# Altium footprint library Octopart-CPL.PcbLib: 29 footprints (part 2 of 2)
Each footprint in its own frame and in the unit in brackets; x right, y up, seen from the top. Pads: shape width x height; smd on the part's side, far side on the other; paste and mask are expansions set on the pad; w line width, h text height; cw(c..) or ccw(c..) is an arc to the next point about the centre after c.
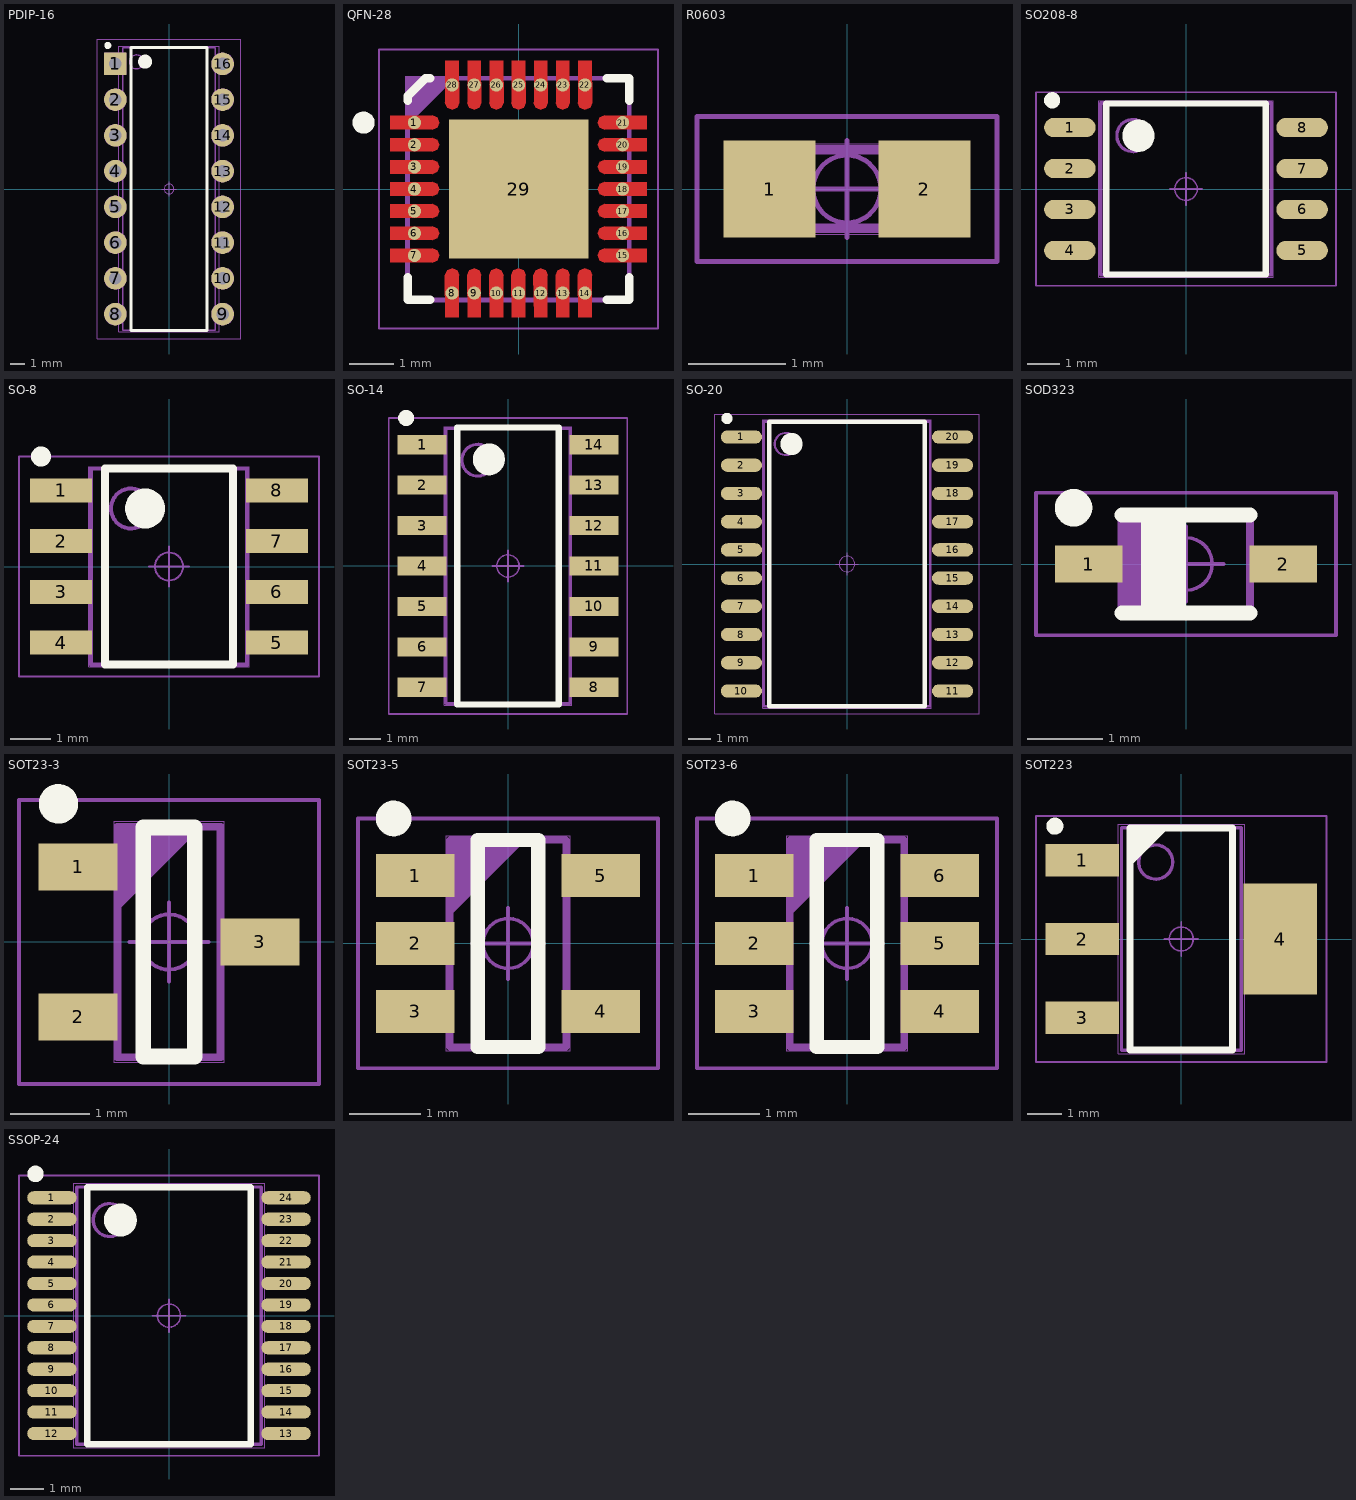
[diagram p1: the footprints below, top view; thin cyan lines are the x and y axes]

## PDIP-16 [mm]
pads (16):
  rect 1.6x1.6 / inner round 1.6 / far side rect 1.6x1.6 hole 0.9: 1(-3.81,8.89)
  round 1.6 hole 0.9: 2(-3.81,6.35) 3(-3.81,3.81) 4(-3.81,1.27) 5(-3.81,-1.27) 6(-3.81,-3.81) 7(-3.81,-6.35) 8(-3.81,-8.89) 9(3.81,-8.89) 10(3.81,-6.35) 11(3.81,-3.81) 12(3.81,-1.27) 13(3.81,1.27) 14(3.81,3.81) 15(3.81,6.35) 16(3.81,8.89)
Top Overlay:
  circle w0.25: c-4.35,10.2 r0.125
  circle w0.5: c-1.7,9.05 r0.25
  lines w0.2: -2.7,-10.05 -2.7,10.05 2.7,10.05 2.7,-10.05 -2.7,-10.05
Mechanical 15:
  circle w0.1: c3.81,8.89 r0.75
  circle w0.1: c3.81,6.35 r0.75
  circle w0.1: c3.81,3.81 r0.75
  circle w0.1: c3.81,1.27 r0.75
  circle w0.1: c3.81,-1.27 r0.75
  circle w0.1: c3.81,-3.81 r0.75
  circle w0.1: c3.81,-6.35 r0.75
  circle w0.1: c3.81,-8.89 r0.75
  circle w0.1: c-3.81,-8.89 r0.75
  circle w0.1: c-3.81,-6.35 r0.75
  circle w0.1: c-3.81,-3.81 r0.75
  circle w0.1: c-3.81,-1.27 r0.75
  circle w0.1: c-3.81,1.27 r0.75
  circle w0.1: c-3.81,3.81 r0.75
  circle w0.1: c-3.81,6.35 r0.75
  circle w0.1: c-2.302,9.033 r0.5
  lines w0.1: -4.56,8.14 -3.06,8.14 -3.06,9.64 -4.56,9.64 -4.56,8.14 ; -3.302,-10.033 -3.302,10.033 3.302,10.033 3.302,-10.033 -3.302,-10.033
Mechanical 20:
  circle w0.05: c0,0 r0.35
  lines w0.05: -0.5,0 0.5,0 ; 0,-0.5 0,0.5 ; -5.11,-10.66 -5.11,10.66 5.11,10.66 5.11,-10.66 -5.11,-10.66
Mechanical 21:
  lines w0.001: -3.556,-10.16 -3.556,10.16 3.556,10.16 3.556,-10.16 -3.556,-10.16

## QFN-28 [mm]
pads (29):
  round 0.3 smd: 1(-2.35,1.5) 2(-2.35,1) 3(-2.35,0.5) 4(-2.35,0) 5(-2.35,-0.5) 6(-2.35,-1) 7(-2.35,-1.5) 8(-1.5,-2.35) 9(-1,-2.35) 10(-0.5,-2.35) 11(0,-2.35) 12(0.5,-2.35) 13(1,-2.35) 14(1.5,-2.35) 15(2.35,-1.5) 16(2.35,-1) 17(2.35,-0.5) 18(2.35,0) 19(2.35,0.5) 20(2.35,1) 21(2.35,1.5) 22(1.5,2.35) 23(1,2.35) 24(0.5,2.35) 25(0,2.35) 26(-0.5,2.35) 27(-1,2.35) 28(-1.5,2.35)
  rect 3.15x3.15 smd paste-0.58: 29(0,0)
Top Layer:
  region: -2.9,1.65 -1.95,1.662 -1.835,1.615 -1.788,1.5 -1.835,1.385 -1.95,1.338 -1.95,1.35 -2.9,1.35
  region: -2.9,1.15 -1.95,1.162 -1.835,1.115 -1.788,1 -1.835,0.885 -1.95,0.838 -1.95,0.85 -2.9,0.85
  region: -2.9,0.65 -1.95,0.662 -1.835,0.615 -1.788,0.5 -1.835,0.385 -1.95,0.338 -1.95,0.35 -2.9,0.35
  region: -2.9,0.15 -1.95,0.162 -1.835,0.115 -1.788,0 -1.835,-0.115 -1.95,-0.162 -1.95,-0.15 -2.9,-0.15
  region: -2.9,-0.35 -1.95,-0.338 -1.835,-0.385 -1.788,-0.5 -1.835,-0.615 -1.95,-0.662 -1.95,-0.65 -2.9,-0.65
  region: -2.9,-0.85 -1.95,-0.838 -1.835,-0.885 -1.788,-1 -1.835,-1.115 -1.95,-1.162 -1.95,-1.15 -2.9,-1.15
  region: -2.9,-1.35 -1.95,-1.338 -1.835,-1.385 -1.788,-1.5 -1.835,-1.615 -1.95,-1.662 -1.95,-1.65 -2.9,-1.65
  region: -1.65,-2.9 -1.662,-1.95 -1.615,-1.835 -1.5,-1.788 -1.385,-1.835 -1.338,-1.95 -1.35,-1.95 -1.35,-2.9
  region: -1.15,-2.9 -1.162,-1.95 -1.115,-1.835 -1,-1.788 -0.885,-1.835 -0.838,-1.95 -0.85,-1.95 -0.85,-2.9
  region: -0.65,-2.9 -0.662,-1.95 -0.615,-1.835 -0.5,-1.788 -0.385,-1.835 -0.338,-1.95 -0.35,-1.95 -0.35,-2.9
  region: -0.15,-2.9 -0.162,-1.95 -0.115,-1.835 0,-1.788 0.115,-1.835 0.162,-1.95 0.15,-1.95 0.15,-2.9
  region: 0.35,-2.9 0.338,-1.95 0.385,-1.835 0.5,-1.788 0.615,-1.835 0.662,-1.95 0.65,-1.95 0.65,-2.9
  region: 0.85,-2.9 0.838,-1.95 0.885,-1.835 1,-1.788 1.115,-1.835 1.162,-1.95 1.15,-1.95 1.15,-2.9
  region: 1.35,-2.9 1.338,-1.95 1.385,-1.835 1.5,-1.788 1.615,-1.835 1.662,-1.95 1.65,-1.95 1.65,-2.9
  region: 2.9,-1.65 1.95,-1.662 1.835,-1.615 1.788,-1.5 1.835,-1.385 1.95,-1.338 1.95,-1.35 2.9,-1.35
  region: 2.9,-1.15 1.95,-1.162 1.835,-1.115 1.788,-1 1.835,-0.885 1.95,-0.838 1.95,-0.85 2.9,-0.85
  region: 2.9,-0.65 1.95,-0.662 1.835,-0.615 1.788,-0.5 1.835,-0.385 1.95,-0.338 1.95,-0.35 2.9,-0.35
  region: 2.9,-0.15 1.95,-0.162 1.835,-0.115 1.788,0 1.835,0.115 1.95,0.162 1.95,0.15 2.9,0.15
  region: 2.9,0.35 1.95,0.338 1.835,0.385 1.788,0.5 1.835,0.615 1.95,0.662 1.95,0.65 2.9,0.65
  region: 2.9,0.85 1.95,0.838 1.835,0.885 1.788,1 1.835,1.115 1.95,1.162 1.95,1.15 2.9,1.15
  region: 2.9,1.35 1.95,1.338 1.835,1.385 1.788,1.5 1.835,1.615 1.95,1.662 1.95,1.65 2.9,1.65
  region: 1.65,2.9 1.662,1.95 1.615,1.835 1.5,1.788 1.385,1.835 1.338,1.95 1.35,1.95 1.35,2.9
  region: 1.15,2.9 1.162,1.95 1.115,1.835 1,1.788 0.885,1.835 0.838,1.95 0.85,1.95 0.85,2.9
  region: 0.65,2.9 0.662,1.95 0.615,1.835 0.5,1.788 0.385,1.835 0.338,1.95 0.35,1.95 0.35,2.9
  region: 0.15,2.9 0.162,1.95 0.115,1.835 0,1.788 -0.115,1.835 -0.162,1.95 -0.15,1.95 -0.15,2.9
  region: -0.35,2.9 -0.338,1.95 -0.385,1.835 -0.5,1.788 -0.615,1.835 -0.662,1.95 -0.65,1.95 -0.65,2.9
  region: -0.85,2.9 -0.838,1.95 -0.885,1.835 -1,1.788 -1.115,1.835 -1.162,1.95 -1.15,1.95 -1.15,2.9
  region: -1.35,2.9 -1.338,1.95 -1.385,1.835 -1.5,1.788 -1.615,1.835 -1.662,1.95 -1.65,1.95 -1.65,2.9
Top Overlay:
  circle w0.25: c-3.5,1.5 r0.125
  lines w0.2: -2.5,-2 -2.5,-2.5 -2,-2.5 ; -2.5,2 -2.5,2.1 -2.1,2.5 -2,2.5 ; 2,-2.5 2.5,-2.5 2.5,-2 ; 2,2.5 2.5,2.5 2.5,2
Top Paste:
  drawing of 28 lines, arcs and shapes, not listed
Top Solder:
  drawing of 28 lines, arcs and shapes, not listed
Mechanical 15:
  lines w0.1: -2.5,1.5 -1.5,2.5 ; -2.5,1.6 -1.6,2.5 ; -2.5,1.7 -1.7,2.5 ; -2.5,1.8 -1.8,2.5 ; -2.5,1.9 -1.9,2.5 ; -2.5,2 -2,2.5 ; -2.5,2.1 -2.1,2.5 ; -2.5,2.2 -2.2,2.5 ; -2.5,2.3 -2.3,2.5 ; -2.5,2.4 -2.4,2.5 ; -2.5,-2.5 -2.5,2.5 2.5,2.5 2.5,-2.5 -2.5,-2.5
Mechanical 20:
  circle w0.05: c0,0 r0.35
  lines w0.05: -0.5,0 0.5,0 ; 0,-0.5 0,0.5 ; -3.15,-3.15 -3.15,3.15 3.15,3.15 3.15,-3.15 -3.15,-3.15
Mechanical 21:
  lines w0.001: -2.55,-2.55 -2.55,2.55 2.55,2.55 2.55,-2.55 -2.55,-2.55

## R0603 [mm]
pads (2):
  rect 0.95x1 smd: 1(-0.8,0) 2(0.8,0)
Mechanical 15:
  lines w0.1: -0.812,-0.405 -0.812,0.405 0.812,0.405 0.812,-0.405 -0.812,-0.405
Mechanical 20:
  circle w0.05: c0,0 r0.35
  lines w0.05: -0.5,0 0.5,0 ; 0,-0.5 0,0.5 ; -1.55,-0.75 -1.55,0.75 1.55,0.75 1.55,-0.75 -1.55,-0.75
Mechanical 21:
  lines w0.001: -0.89,-0.47 -0.89,0.47 0.89,0.47 0.89,-0.47 -0.89,-0.47

## SO208-8 [mm]
pads (8):
  oval 1.6x0.6 smd: 1(-3.6,1.905) 2(-3.6,0.635) 3(-3.6,-0.635) 4(-3.6,-1.905) 5(3.6,-1.905) 6(3.6,-0.635) 7(3.6,0.635) 8(3.6,1.905)
Top Overlay:
  circle w0.25: c-4.15,2.75 r0.125
  circle w0.5: c-1.475,1.65 r0.25
  lines w0.2: -2.475,-2.65 -2.475,2.65 2.475,2.65 2.475,-2.65 -2.475,-2.65
Mechanical 15:
  circle w0.1: c-1.645,1.655 r0.5
  lines w0.1: -2.645,-2.655 -2.645,2.655 2.645,2.655 2.645,-2.655 -2.645,-2.655
Mechanical 20:
  circle w0.05: c0,0 r0.35
  lines w0.05: -0.5,0 0.5,0 ; 0,-0.5 0,0.5 ; -4.65,-3 -4.65,3 4.65,3 4.65,-3 -4.65,-3
Mechanical 21:
  lines w0.001: -2.705,-2.73 -2.705,2.73 2.705,2.73 2.705,-2.73 -2.705,-2.73

## SO-8 [mm]
pads (8):
  rect 1.55x0.6 smd: 1(-2.7,1.905) 2(-2.7,0.635) 3(-2.7,-0.635) 4(-2.7,-1.905) 5(2.7,-1.905) 6(2.7,-0.635) 7(2.7,0.635) 8(2.7,1.905)
Top Overlay:
  circle w0.25: c-3.2,2.75 r0.125
  circle w0.5: c-0.6,1.45 r0.25
  lines w0.2: -1.6,-2.45 -1.6,2.45 1.6,2.45 1.6,-2.45 -1.6,-2.45
Mechanical 15:
  circle w0.1: c-0.95,1.45 r0.5
  lines w0.1: -1.95,-2.45 -1.95,2.45 1.95,2.45 1.95,-2.45 -1.95,-2.45
Mechanical 20:
  circle w0.05: c0,0 r0.35
  lines w0.05: -0.5,0 0.5,0 ; 0,-0.5 0,0.5 ; -3.75,-2.75 -3.75,2.75 3.75,2.75 3.75,-2.75 -3.75,-2.75
Mechanical 21:
  lines w0.001: -2,-2.5 -2,2.5 2,2.5 2,-2.5 -2,-2.5

## SO-14 [mm]
pads (14):
  rect 1.55x0.6 smd: 1(-2.7,3.81) 2(-2.7,2.54) 3(-2.7,1.27) 4(-2.7,0) 5(-2.7,-1.27) 6(-2.7,-2.54) 7(-2.7,-3.81) 8(2.7,-3.81) 9(2.7,-2.54) 10(2.7,-1.27) 11(2.7,0) 12(2.7,1.27) 13(2.7,2.54) 14(2.7,3.81)
Top Overlay:
  circle w0.5: c-0.6,3.35 r0.25
  circle w0.25: c-3.2,4.65 r0.125
  lines w0.2: -1.6,-4.35 1.6,-4.35 1.6,4.35 -1.6,4.35 -1.6,-4.35
Mechanical 15:
  circle w0.1: c-0.95,3.325 r0.5
  lines w0.1: -1.95,-4.325 1.95,-4.325 1.95,4.325 -1.95,4.325 -1.95,-4.325
Mechanical 20:
  circle w0.05: c0,0 r0.35
  lines w0.05: -0.5,0 0.5,0 ; 0,-0.5 0,0.5 ; -3.75,-4.65 3.75,-4.65 3.75,4.65 -3.75,4.65 -3.75,-4.65
Mechanical 21:
  lines w0.001: -2,-4.375 2,-4.375 2,4.375 -2,4.375 -2,-4.375

## SO-20 [mm]
pads (20):
  oval 1.85x0.6 smd: 1(-4.75,5.715) 2(-4.75,4.445) 3(-4.75,3.175) 4(-4.75,1.905) 5(-4.75,0.635) 6(-4.75,-0.635) 7(-4.75,-1.905) 8(-4.75,-3.175) 9(-4.75,-4.445) 10(-4.75,-5.715) 11(4.75,-5.715) 12(4.75,-4.445) 13(4.75,-3.175) 14(4.75,-1.905) 15(4.75,-0.635) 16(4.75,0.635) 17(4.75,1.905) 18(4.75,3.175) 19(4.75,4.445) 20(4.75,5.715)
Top Overlay:
  circle w0.5: c-2.5,5.4 r0.25
  circle w0.25: c-5.4,6.55 r0.125
  lines w0.2: -3.5,-6.4 3.5,-6.4 3.5,6.4 -3.5,6.4 -3.5,-6.4
Mechanical 15:
  circle w0.1: c-2.75,5.4 r0.5
  lines w0.1: -3.75,-6.4 3.75,-6.4 3.75,6.4 -3.75,6.4 -3.75,-6.4
Mechanical 20:
  circle w0.05: c0,0 r0.35
  lines w0.05: -0.5,0 0.5,0 ; 0,-0.5 0,0.5 ; -5.95,-6.75 5.95,-6.75 5.95,6.75 -5.95,6.75 -5.95,-6.75
Mechanical 21:
  lines w0.001: -3.8,-6.5 3.8,-6.5 3.8,6.5 -3.8,6.5 -3.8,-6.5

## SOD323 [mm]
height 1
pads (2):
  rect 0.9x0.5 smd: 1(-1.3,0) 2(1.3,0)
Top Overlay:
  circle w0.25: c-1.5,0.75 r0.125
  lines w0.2: -0.85,-0.65 0.85,-0.65 ; -0.85,0.65 0.85,0.65 ; -0.5,-0.65 -0.5,0.65 ; -0.3,-0.65 -0.3,0.65 ; -0.1,-0.65 -0.1,0.65
Mechanical 15:
  lines w0.1: -0.75,-0.625 -0.75,0.625 ; -0.65,-0.625 -0.65,0.625 ; -0.55,-0.625 -0.55,0.625 ; -0.45,-0.625 -0.45,0.625 ; -0.35,-0.625 -0.35,0.625 ; -0.25,-0.625 -0.25,0.625 ; -0.15,-0.625 -0.15,0.625 ; -0.85,-0.625 -0.85,0.625 0.85,0.625 0.85,-0.625 -0.85,-0.625
Mechanical 20:
  circle w0.05: c0,0 r0.35
  lines w0.05: -0.5,0 0.5,0 ; 0,-0.5 0,0.5 ; -2,-0.95 -2,0.95 2,0.95 2,-0.95 -2,-0.95
Mechanical 21:
  lines w0.001: -0.9,-0.675 -0.9,0.675 0.9,0.675 0.9,-0.675 -0.9,-0.675

## SOT23-3 [mm]
height 1.09
pads (3):
  rect 1x0.6 smd: 1(-1.15,0.95) 2(-1.15,-0.95) 3(1.15,0)
Top Overlay:
  circle w0.25: c-1.4,1.75 r0.125
  lines w0.2: -0.325,-1.45 0.325,-1.45 0.325,1.45 -0.325,1.45 -0.325,-1.45
Mechanical 15:
  lines w0.1: -0.65,0.46 0.35,1.46 ; -0.65,0.56 0.25,1.46 ; -0.65,0.66 0.15,1.46 ; -0.65,0.76 0.05,1.46 ; -0.65,0.86 -0.05,1.46 ; -0.65,0.96 -0.15,1.46 ; -0.65,1.06 -0.25,1.46 ; -0.65,1.16 -0.35,1.46 ; -0.65,1.26 -0.45,1.46 ; -0.65,1.36 -0.55,1.46 ; -0.65,-1.46 0.65,-1.46 0.65,1.46 -0.65,1.46 -0.65,-1.46
Mechanical 20:
  circle w0.05: c0,0 r0.35
  lines w0.05: -0.5,0 0.5,0 ; 0,-0.5 0,0.5 ; -1.9,-1.8 1.9,-1.8 1.9,1.8 -1.9,1.8 -1.9,-1.8
Mechanical 21:
  lines w0.001: -0.7,-1.525 0.7,-1.525 0.7,1.525 -0.7,1.525 -0.7,-1.525

## SOT23-5 [mm]
pads (5):
  rect 1.1x0.6 smd: 1(-1.3,0.95) 2(-1.3,0) 3(-1.3,-0.95) 4(1.3,-0.95) 5(1.3,0.95)
Top Overlay:
  circle w0.25: c-1.6,1.75 r0.125
  lines w0.2: -0.425,-1.45 0.425,-1.45 0.425,1.45 -0.425,1.45 -0.425,-1.45
Mechanical 15:
  lines w0.1: -0.812,0.45 0.188,1.45 ; -0.812,0.55 0.088,1.45 ; -0.812,0.65 -0.012,1.45 ; -0.812,0.75 -0.112,1.45 ; -0.812,0.85 -0.212,1.45 ; -0.812,0.95 -0.312,1.45 ; -0.812,1.05 -0.412,1.45 ; -0.812,1.15 -0.512,1.45 ; -0.812,1.25 -0.612,1.45 ; -0.812,1.35 -0.712,1.45 ; -0.812,-1.45 0.812,-1.45 0.812,1.45 -0.812,1.45 -0.812,-1.45
Mechanical 20:
  circle w0.05: c0,0 r0.35
  lines w0.05: -0.5,0 0.5,0 ; 0,-0.5 0,0.5 ; -2.1,-1.75 2.1,-1.75 2.1,1.75 -2.1,1.75 -2.1,-1.75
Mechanical 21:
  lines w0.001: -0.875,-1.5 0.875,-1.5 0.875,1.5 -0.875,1.5 -0.875,-1.5

## SOT23-6 [mm]
pads (6):
  rect 1.1x0.6 smd: 1(-1.3,0.95) 2(-1.3,0) 3(-1.3,-0.95) 4(1.3,-0.95) 5(1.3,0) 6(1.3,0.95)
Top Overlay:
  circle w0.25: c-1.6,1.75 r0.125
  lines w0.2: -0.425,-1.45 0.425,-1.45 0.425,1.45 -0.425,1.45 -0.425,-1.45
Mechanical 15:
  lines w0.1: -0.8,0.45 0.2,1.45 ; -0.8,0.55 0.1,1.45 ; -0.8,0.65 0,1.45 ; -0.8,0.75 -0.1,1.45 ; -0.8,0.85 -0.2,1.45 ; -0.8,0.95 -0.3,1.45 ; -0.8,1.05 -0.4,1.45 ; -0.8,1.15 -0.5,1.45 ; -0.8,1.25 -0.6,1.45 ; -0.8,1.35 -0.7,1.45 ; -0.8,-1.45 0.8,-1.45 0.8,1.45 -0.8,1.45 -0.8,-1.45
Mechanical 20:
  circle w0.05: c0,0 r0.35
  lines w0.05: -0.5,0 0.5,0 ; 0,-0.5 0,0.5 ; -2.1,-1.75 2.1,-1.75 2.1,1.75 -2.1,1.75 -2.1,-1.75
Mechanical 21:
  lines w0.001: -0.85,-1.5 0.85,-1.5 0.85,1.5 -0.85,1.5 -0.85,-1.5

## SOT223 [mm]
pads (4):
  rect 2.15x0.95 smd: 1(-2.9,2.3) 2(-2.9,0) 3(-2.9,-2.3)
  rect 2.15x3.25 smd: 4(2.9,0)
Top Overlay:
  circle w0.25: c-3.7,3.3 r0.125
  lines w0.2: -1.5,2.25 -0.5,3.25 ; -1.5,2.45 -0.7,3.25 ; -1.5,2.65 -0.9,3.25 ; -1.5,2.85 -1.1,3.25 ; -1.5,3.05 -1.3,3.25 ; -1.5,-3.25 -1.5,3.25 1.5,3.25 1.5,-3.25 -1.5,-3.25
Mechanical 15:
  circle w0.1: c-0.75,2.25 r0.5
  lines w0.1: -1.75,-3.25 -1.75,3.25 1.75,3.25 1.75,-3.25 -1.75,-3.25
Mechanical 20:
  circle w0.05: c0,0 r0.35
  lines w0.05: -0.5,0 0.5,0 ; 0,-0.5 0,0.5 ; -4.25,-3.6 -4.25,3.6 4.25,3.6 4.25,-3.6 -4.25,-3.6
Mechanical 21:
  lines w0.001: -1.85,-3.35 -1.85,3.35 1.85,3.35 1.85,-3.35 -1.85,-3.35

## SSOP-24 [mm]
pads (24):
  oval 1.5x0.4 smd: 1(-3.55,3.575) 2(-3.55,2.925) 3(-3.55,2.275) 4(-3.55,1.625) 5(-3.55,0.975) 6(-3.55,0.325) 7(-3.55,-0.325) 8(-3.55,-0.975) 9(-3.55,-1.625) 10(-3.55,-2.275) 11(-3.55,-2.925) 12(-3.55,-3.575) 13(3.55,-3.575) 14(3.55,-2.925) 15(3.55,-2.275) 16(3.55,-1.625) 17(3.55,-0.975) 18(3.55,-0.325) 19(3.55,0.325) 20(3.55,0.975) 21(3.55,1.625) 22(3.55,2.275) 23(3.55,2.925) 24(3.55,3.575)
Top Overlay:
  circle w0.5: c-1.475,2.9 r0.25
  circle w0.25: c-4.05,4.3 r0.125
  lines w0.2: -2.475,-3.9 2.475,-3.9 2.475,3.9 -2.475,3.9 -2.475,-3.9
Mechanical 15:
  circle w0.1: c-1.8,2.9 r0.5
  lines w0.1: -2.8,-3.9 2.8,-3.9 2.8,3.9 -2.8,3.9 -2.8,-3.9
Mechanical 20:
  circle w0.05: c0,0 r0.35
  lines w0.05: -0.5,0 0.5,0 ; 0,-0.5 0,0.5 ; -4.55,-4.25 4.55,-4.25 4.55,4.25 -4.55,4.25 -4.55,-4.25
Mechanical 21:
  lines w0.001: -2.9,-4 2.9,-4 2.9,4 -2.9,4 -2.9,-4